# Altium integrated library components_library.IntLib: 20 symbols
Pins are listed as number, name and electrical type; pins without a type are passive.

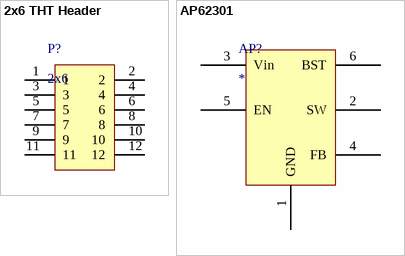
[diagram p0: symbols 2x6 THT Header to AP62301]

## 2x6 THT Header
designator P?, comment 2x6
footprint 1.27mm headet tht
pins: 1, 2, 3, 4, 5, 6, 7, 8, 9, 10, 11, 12

## AP62301
designator AP?
footprint SOT95P280X100-6L (SOT23, 6-Leads, Body 2.90x2.80mm, Pitch 0.95mm, IPC High Density)
pins: 1 GND, 2 SW, 3 Vin, 4 FB, 5 EN, 6 BST


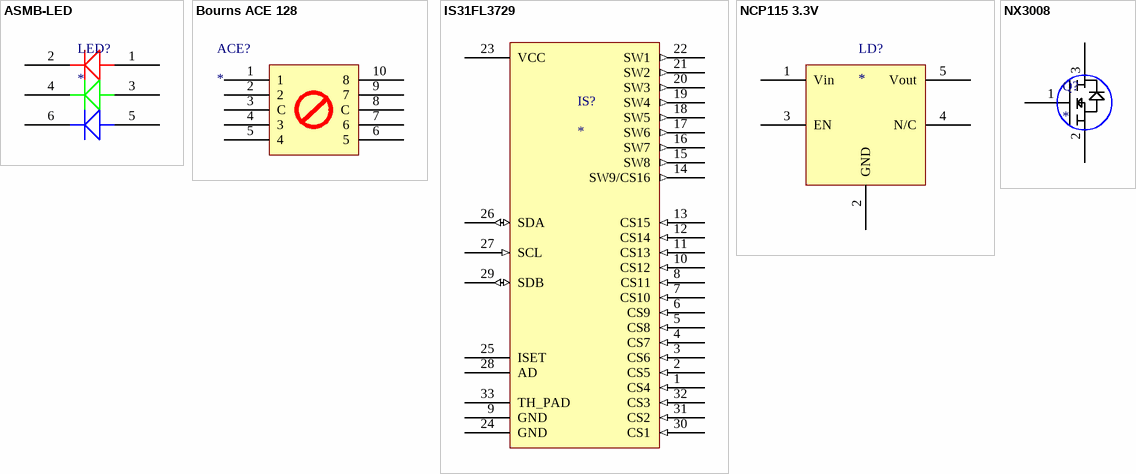
[diagram p1: symbols ASMB-LED to NX3008]

## ASMB-LED
designator LED?
footprint ASMB-LED
pins: 1, 2, 3, 4, 5, 6

## Bourns ACE 128
designator ACE?
footprint Bourns ACE 128
pins: 1, 2, 3 C, 4 3, 5 4, 6 5, 7 6, 8 C, 9 7, 10 8

## IS31FL3729
designator IS?
footprint QFN40P400X400X80_HS-33L (QFN, 32-Leads, Body 4,00x4,00mm, Pitch 0,40mm, Thermal Pad 2,80x2,80mm, IPC High Density)
pins: 1 CS4 (in), 2 CS5 (in), 3 CS6 (in), 4 CS7 (in), 5 CS8 (in), 6 CS9 (in), 7 CS10 (in), 8 CS11 (in), 9 GND (power), 10 CS12 (in), 11 CS13 (in), 12 CS14 (in), 13 CS15 (in), 14 SW9/CS16 (out), 15 SW8 (out), 16 SW7 (out), 17 SW6 (out), 18 SW5 (out), 19 SW4 (out), 20 SW3 (out), 21 SW2 (out), 22 SW1 (out), 23 VCC (power), 24 GND (power), 25 ISET (power), 26 SDA (io), 27 SCL (in), 28 AD (power), 29 SDB (io), 30 CS1 (in), 31 CS2 (in), 32 CS3 (in), 33 TH_PAD

## NCP115 3.3V
designator LD?
footprint TSOP95P280X110-6L (TSOP, 6-Leads, Body 2,87x1,50mm, Pitch 0,95mm, IPC High Density)
pins: 1 Vin, 2 GND, 3 EN, 4 N/C, 5 Vout

## NX3008
designator Q?
footprint SOT95P230X110-3L (SOT23, 3-Leads, Body 2,90x2,30mm, Pitch 0,95mm, IPC High Density)
pins: 1 G, 2 S, 3 S


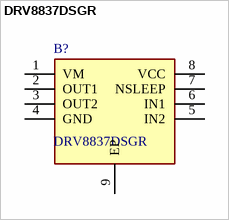
[diagram p2: symbol DRV8837DSGR]

## DRV8837DSGR
designator B?
1.8A Low Voltage Brushed DC Motor Driver (PWM Ctrl); Manufacturer_Name: Texas Instruments; Geometry.Height: 0.8mm; Mouser Part Number: 595-DRV8837DSGR; Mouser Price/Stock: https://www.mouser.co.uk/ProductDetail/Texas-Instruments/DRV8837DSGR?qs=l6ZoeTYLMwO0pKIJ8222Ww%3D%3D; Manufacturer_Part_Number: DRV8837DSGR; Datasheet Link: http://www.ti.com/lit/gpn/drv8837
footprint SON50P200X200X80-9N
pins: 1 VM, 2 OUT1, 3 OUT2, 4 GND, 5 IN2, 6 IN1, 7 NSLEEP, 8 VCC, 9 EP


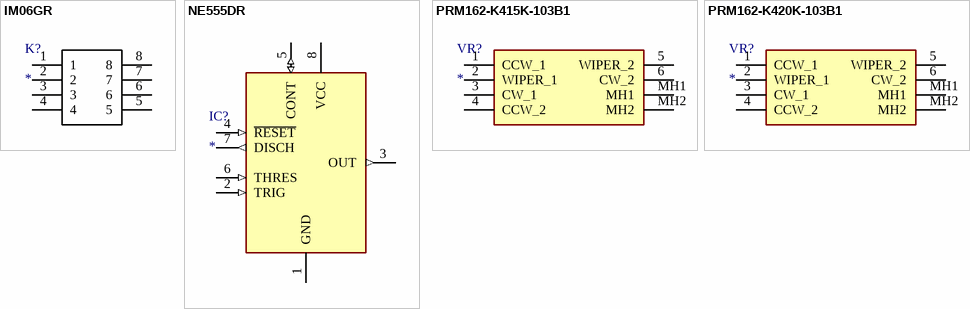
[diagram p3: symbols IM06GR to PRM162-K420K-103B1]

## IM06GR
designator K?
Relay or Contactor; Manufacturer_Name: TE Connectivity; Manufacturer_Part_Number: IM06GR; Description: DPDT telecom SMT relay; Datasheet Link: https://datasheet.datasheetarchive.com/originals/distributors/Datasheets_SAMA/af0478e68580ade93768a4593bd7be66.pdf; Mouser Part Number: 655-IM06GR; Mouser Price/Stock: https://www.mouser.co.uk/ProductDetail/TE-Connectivity/IM06GR?qs=CYMZr0Hm9rcOFFXIittlkQ%3D%3D; Arrow Part Number: IM06GR; Arrow Price/Stock: https://www.arrow.com/en/products/im06gr/te-connectivity?region=nac
footprint IM06GR
pins: 1, 2, 3, 4, 5, 6, 7, 8

## NE555DR
designator IC?
Integrated Circuit; Manufacturer_Name: Texas Instruments; Manufacturer_Part_Number: NE555DR; Datasheet Link: http://www.ti.com/lit/ds/symlink/ne555.pdf; Height: 1.75mm; Mouser Part Number: 595-NE555DR; Mouser Price/Stock: https://www.mouser.com/Search/Refine.aspx?Keyword=595-NE555DR; RS Part Number: 1218414; RS Price/Stock: http://uk.rs-online.com/web/p/products/1218414
footprint SOIC127P600X175-8N
pins: 1 GND (power), 2 TRIG (in), 3 OUT (out), 4 ~{RESET} (in), 5 CONT (io), 6 THRES (in), 7 DISCH (out), 8 VCC (power)

## PRM162-K415K-103B1
designator VR?
Variable Resistor; Manufacturer_Name: Bourns; Manufacturer_Part_Number: PRM162-K415K-103B1; Datasheet Link: https://www.bourns.com/docs/product-datasheets/PDB18.pdf; Height: 28.5mm; Mouser Part Number: 652-PRM162K415K103B1; Mouser Price/Stock: https://www.mouser.com/Search/Refine.aspx?Keyword=652-PRM162K415K103B1
footprint PRM162K415K103B1
pins: 1 CCW_1, 2 WIPER_1, 3 CW_1, 4 CCW_2, 5 WIPER_2, 6 CW_2, MH1, MH2

## PRM162-K420K-103B1
designator VR?
Variable Resistor; Manufacturer_Name: Bourns; Manufacturer_Part_Number: PRM162-K420K-103B1; Datasheet Link: https://www.bourns.com/docs/product-datasheets/PDB18.pdf; Height: 28.5mm; Mouser Part Number: 652-PRM162K420K103B1; Mouser Price/Stock: https://www.mouser.co.uk/ProductDetail/Bourns/PRM162-K420K-103B1?qs=U%2FacTlguYxaZbpiLvzzeCA%3D%3D; Arrow Part Number: PRM162-K420K-103B1; Arrow Price/Stock: https://www.arrow.com/en/products/prm162-k420k-103b1/bourns?region=nac
footprint PRM162K415K103B1
pins: 1 CCW_1, 2 WIPER_1, 3 CW_1, 4 CCW_2, 5 WIPER_2, 6 CW_2, MH1, MH2


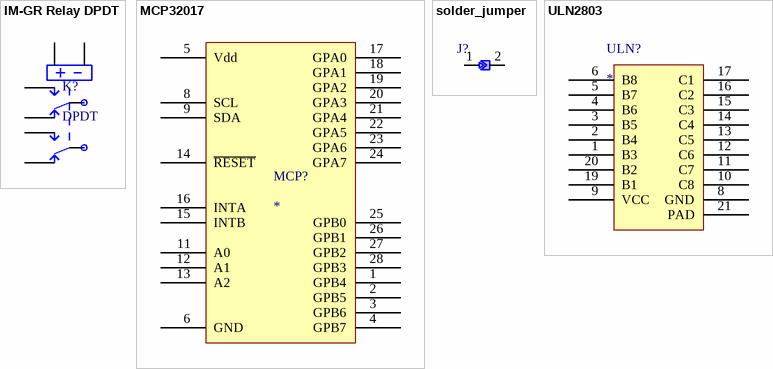
[diagram p4: symbols IM-GR Relay DPDT to ULN2803]

## IM-GR Relay DPDT
designator K?, comment DPDT
TE CONNECTIVITY  IM-GR  RELAY, DPDT, NO; Farnell ID: 1175070; URL: http://si.farnell.com/te-connectivity-axicom/im06gr/relay-gull-wing-dpco-12vdc-2a/dp/1175070
footprint AXICOM IM-G Relay (TE CONNECTIVITY AXICOM IM-G (Gull wings) Relay SMD)
pins: 1, 2, 3, 4, 5, 6, 7, 8

## MCP32017
designator MCP?
footprint MCP23017 QFN (QFN, 28-Leads, Body 6,00x6,00mm, Pitch 0,65mm, Thermal Pad 3,93x3,93mm, IPC High Density)
pins: 1 GPB4, 2 GPB5, 3 GPB6, 4 GPB7, 5 Vdd, 6 GND, 8 SCL, 9 SDA, 11 A0, 12 A1, 13 A2, 14 ~{RESET}, 15 INTB, 16 INTA, 17 GPA0, 18 GPA1, 19 GPA2, 20 GPA3, 21 GPA4, 22 GPA5, 23 GPA6, 24 GPA7, 25 GPB0, 26 GPB1, 27 GPB2, 28 GPB3

## solder_jumper
designator J?  (value not drawn)
footprint solder_jumper_triangle
footprint SOLDER_JUMPER_SQUARE
pins: 1, 2

## ULN2803
designator ULN?
footprint QFN127P600-8N
pins: 1 B3, 2 B4, 3 B5, 4 B6, 5 B7, 6 B8, 8 GND, 9 VCC, 10 C8, 11 C7, 12 C6, 13 C5, 14 C4, 15 C3, 16 C2, 17 C1, 19 B1, 20 B2, 21 PAD


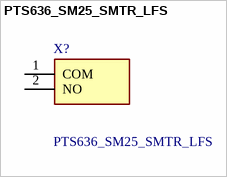
[diagram p5: symbol PTS636_SM25_SMTR_LFS]

## PTS636_SM25_SMTR_LFS
designator X?
Tactile Switches Tact 50mA 12VDC, 6.0x3.5, 2.5mm H, 180gf, G leads, No ground pin, White Actuator; Manufacturer_Name: C & K COMPONENTS; Manufacturer_Part_Number: PTS636 SM25 SMTR LFS; Geometry.Height: 2.7mm; Mouser Part Number: 611-PTS636SM25SMTRLF; Mouser Price/Stock: https://www.mouser.co.uk/ProductDetail/CK/PTS636-SM25-SMTR-LFS?qs=vLWxofP3U2yIXR4iooxesw%3D%3D; Datasheet Link: https://componentsearchengine.com/Datasheets/1/PTS636 SM25 SMTR LFS.pdf
footprint PTS636SM25SMTRLFS
pins: 1 COM, 2 NO


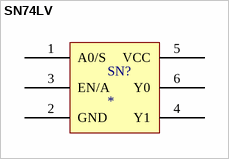
[diagram p6: symbol SN74LV]

## SN74LV
designator SN?
footprint SON35P100X40-6N (SON, 6-Leads, Body 1,00x1,00mm, Pitch 0,35mm, IPC Medium Density)
pins: 1 A0/S, 2 GND, 3 EN/A, 4 Y1, 5 VCC, 6 Y0


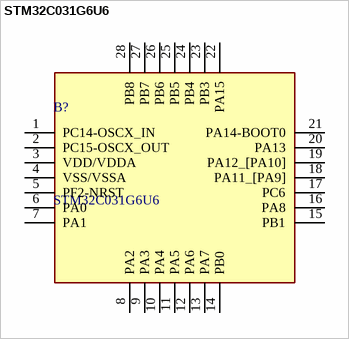
[diagram p7: symbol STM32C031G6U6]

## STM32C031G6U6
designator B?
Mainstream Arm Cortex-M0+ MCU with 32 Kbytes of Flash memory, 12 Kbytes RAM, 48 MHz CPU, 2x USART, timers, ADC, comm. I/F, 2-3.6V; Manufacturer_Name: STMicroelectronics; Geometry.Height: 0.6mm; Mouser Part Number: 511-STM32C031G6U6; Mouser Price/Stock: https://www.mouser.co.uk/ProductDetail/STMicroelectronics/STM32C031G6U6?qs=IPgv5n7u5QZqRf3nOTChhw%3D%3D; Manufacturer_Part_Number: STM32C031G6U6; Datasheet Link: https://www.st.com/resource/en/datasheet/stm32c031c4.pdf
footprint QFN50P400X400X60-28N-D
pins: 1 PC14-OSCX_IN, 2 PC15-OSCX_OUT, 3 VDD/VDDA, 4 VSS/VSSA, 5 PF2-NRST, 6 PA0, 7 PA1, 8 PA2, 9 PA3, 10 PA4, 11 PA5, 12 PA6, 13 PA7, 14 PB0, 15 PB1, 16 PA8, 17 PC6, 18 PA11_[PA9], 19 PA12_[PA10], 20 PA13, 21 PA14-BOOT0, 22 PA15, 23 PB3, 24 PB4, 25 PB5, 26 PB6, 27 PB7, 28 PB8


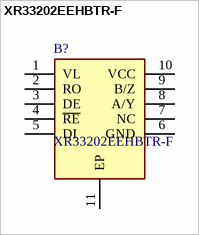
[diagram p8: symbol XR33202EEHBTR-F]

## XR33202EEHBTR-F
designator B?
RS-422/RS-485 Interface IC Wide Supply Trans with I/O Interface; Manufacturer_Name: MaxLinear, Inc.; Geometry.Height: 0.8mm; Mouser Part Number: 701-XR33202EEHBTR-F; Mouser Price/Stock: https://www.mouser.co.uk/ProductDetail/MaxLinear/XR33202EEHBTR-F?qs=GtWAI9k6EVi4nRW8bj1LFw%3D%3D; Manufacturer_Part_Number: XR33202EEHBTR-F; Datasheet Link: https://www.maxlinear.com/ds/xr33202.pdf
footprint SON50P300X300X80-11N-D
pins: 1 VL, 2 RO, 3 DE, 4 ~{RE}, 5 DI, 6 GND, 7 NC, 8 A/Y, 9 B/Z, 10 VCC, 11 EP